# EAGLE library part LMR12010YMKE/NOPB (library IC_Power-Management)
1-A Step-Down DC/DC Switching Regulator in SOT-23 Datasheet <http://www.ti.com/lit/ds/symlink/lmr12010.pdf>
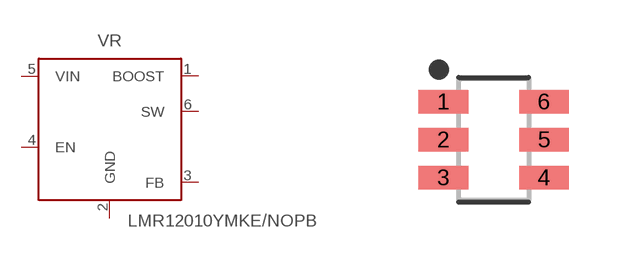
[diagram p14: symbol with the pads of SOT95P280X110-6N; footprint SOT95P280X110-6N]

Designator prefix VR

## LMR12010YMKE/NOPBSOT-23-THIN (CATEGORY: IC_Power-Management; MANUFACTURER: TI; MPN: LMR12010YMKE/NOPB; OPERATING_TEMP: -40 to +125 °C; PART_STATUS: Active; ROHS_COMPLIANT: RoHS Compliant; SUB-CATEGORY: Voltage Regulator; TYPE: DC-DC Switching; VALUE: LMR12010YMKE)  [SOT95P280X110-6N]
1  BOOST  out
2  GND  pas
3  FB  out
4  EN  in
5  VIN  in
6  SW  out

## Footprint SOT95P280X110-6N (pad centres in mm)
6-SOT23, 0.95 mm pitch, 2.80 mm span, 2.90 X 1.60 X 1.10 mm body 6-pin SOT23 package with 0.95 mm pitch, 2.80 mm span with body size 2.90 X 1.60 X 1.10 mm
smd 1.25 x 0.589: 1 -1.256,0.95; 2 -1.256,0; 3 -1.256,-0.95; 4 1.256,-0.95; 5 1.256,0; 6 1.256,0.95